# EAGLE library part LOGIC,MUX:SY55851(2:1,CML) (library QuantumOptics)
SY55851(A), Mux, Micrel, CML outputs, 3GHz, AND/OR/XOR. http://www.micrel.com/_PDF/HBW/sy55851-51a.pdf
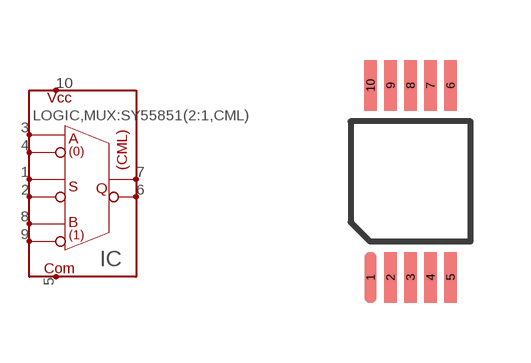
[diagram p95: symbol with the pads of MSOP10; footprint MSOP10]

Designator prefix IC

## LOGIC,MUX:SY55851(2:1,CML)-MSOP10  [MSOP10]
1  S+  in
2  S-  in
3  A+  in
4  A-  in
5  COM
6  Q-  out
7  Q+  out
8  B+  in
9  B-  in
10  VCC

## Footprint MSOP10 (pad centres in mm)
MSOP-10 with 4.8mm row spacing. Sameas Maxim's µsop-10.
smd 0.305 x 1.27: 1 -1,-2.4; 2 -0.5,-2.4; 3 0,-2.4; 4 0.5,-2.4; 5 1,-2.4; 6 1,2.4; 7 0.5,2.4; 8 0,2.4; 9 -0.5,2.4; 10 -1,2.4